# Altium schematic symbol library AP7362-33SP-13.SchLib: 1 symbol
Pins are listed as number, name and electrical type; pins without a type are passive.

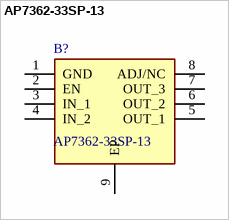
[diagram p0: symbol AP7362-33SP-13]

## AP7362-33SP-13
designator B?
LDO Voltage Regulators LDO CMOS HiCurr SO-8 1.5A LowQ Adj 190mV; Manufacturer_Name: Diodes Incorporated; Geometry.Height: 1.5mm; Mouser Part Number: 621-AP7362-33SP-13; Mouser Price/Stock: https://www.mouser.co.uk/ProductDetail/Diodes-Incorporated/AP7362-33SP-13?qs=KKV7F4CK8NmzeNAjtGP7xA%3D%3D; Manufacturer_Part_Number: AP7362-33SP-13; Datasheet Link: https://www.diodes.com//assets/Datasheets/AP7362.pdf
footprint SOIC127P600X150-9N
pins: 1 GND, 2 EN, 3 IN_1, 4 IN_2, 5 OUT_1, 6 OUT_2, 7 OUT_3, 8 ADJ/NC, 9 EP